# EAGLE library part INA219 (library INA219)
TI INA219A/B Current Sensor SOIC-8 and SOT23-8 Variants
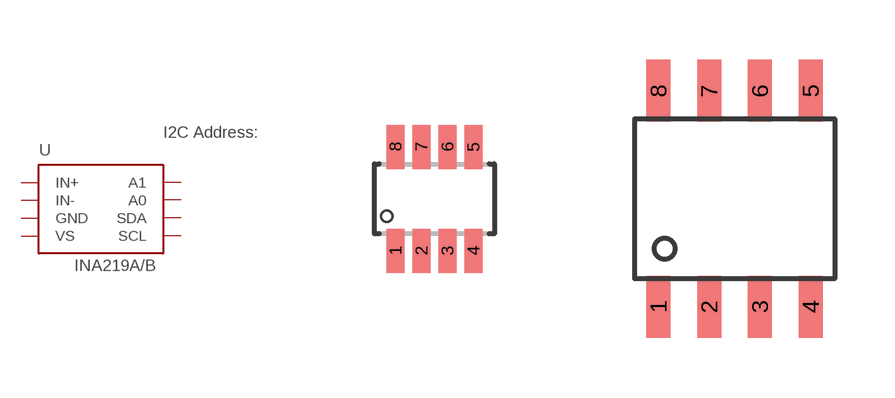
[diagram p0: symbol with the pads of SOT23-8; footprints SOT23-8, SOIC8]

Designator prefix -

## INA219SOT-23  [SOT23-8]
1  IN+
2  IN-
3  GND
4  VS
5  SCL
6  SDA
7  A0
8  A1

## INA219SOIC  [SOIC8]
1  A1
2  A0
3  SDA
4  SCL
5  VS
6  GND
7  IN-
8  IN+

## Footprint SOT23-8 (pad centres in mm)
smd 0.45 x 1.1: 1 -0.975,-1.3; 2 -0.325,-1.3; 3 0.325,-1.3; 4 0.975,-1.3; 5 0.975,1.3; 6 0.325,1.3; 7 -0.325,1.3; 8 -0.975,1.3

## Footprint SOIC8 (pad centres in mm)
smd 0.6 x 1.55: 1 -1.905,-2.7; 2 -0.635,-2.7; 3 0.635,-2.7; 4 1.905,-2.7; 5 1.905,2.7; 6 0.635,2.7; 7 -0.635,2.7; 8 -1.905,2.7